# Altium footprint library PCB - CONNECTOR - TE ZIF.PcbLib: 2 footprints
Each footprint in its own frame and in the unit in brackets; x right, y up, seen from the top. Pads: shape width x height; smd on the part's side, far side on the other; paste and mask are expansions set on the pad; w line width, h text height; cw(c..) or ccw(c..) is an arc to the next point about the centre after c.
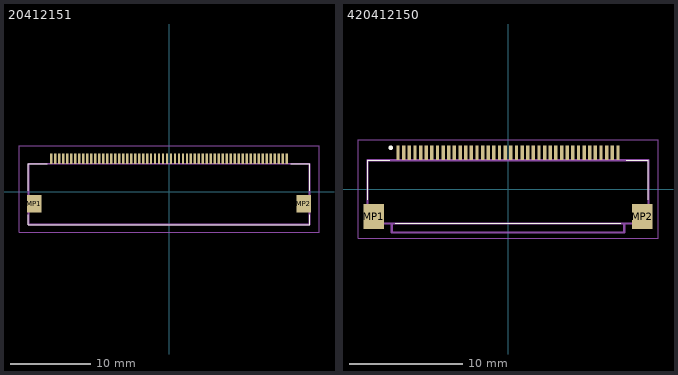
[diagram p0: the footprints below, top view; thin cyan lines are the x and y axes]

## 20412151 [mm]
pads (62):
  rect 0.3x1.3 smd: 1(-14.75,4.125) 2(-14.25,4.125) 3(-13.75,4.125) 4(-13.25,4.125) 5(-12.75,4.125) 6(-12.25,4.125) 7(-11.75,4.125) 8(-11.25,4.125) 9(-10.75,4.125) 10(-10.25,4.125) 11(-9.75,4.125) 12(-9.25,4.125) 13(-8.75,4.125) 14(-8.25,4.125) 15(-7.75,4.125) 16(-7.25,4.125) 17(-6.75,4.125) 18(-6.25,4.125) 19(-5.75,4.125) 20(-5.25,4.125) 21(-4.75,4.125) 22(-4.25,4.125) 23(-3.75,4.125) 24(-3.25,4.125) 25(-2.75,4.125) 26(-2.25,4.125) 27(-1.75,4.125) 28(-1.25,4.125) 29(-0.75,4.125) 30(-0.25,4.125) 31(0.25,4.125) 32(0.75,4.125) 33(1.25,4.125) 34(1.75,4.125) 35(2.25,4.125) 36(2.75,4.125) 37(3.25,4.125) 38(3.75,4.125) 39(4.25,4.125) 40(4.75,4.125) 41(5.25,4.125) 42(5.75,4.125) 43(6.25,4.125) 44(6.75,4.125) 45(7.25,4.125) 46(7.75,4.125) 47(8.25,4.125) 48(8.75,4.125) 49(9.25,4.125) 50(9.75,4.125) 51(10.25,4.125) 52(10.75,4.125) 53(11.25,4.125) 54(11.75,4.125) 55(12.25,4.125) 56(12.75,4.125) 57(13.25,4.125) 58(13.75,4.125) 59(14.25,4.125) 60(14.75,4.125)
  rect 1.8x2.2 smd: MP1(-16.9,-1.525) MP2(16.9,-1.525)
Top Overlay:
  lines w0.1: -17.615,-2.875 -17.615,-4.125 17.615,-4.125 17.615,-2.875 ; -17.615,0.125 -17.615,3.475 -15.25,3.475 ; 15.25,3.475 17.615,3.475 17.615,0.125
Mechanical 13:
  lines w0.2: -17.615,-4.125 -17.615,3.475 17.615,3.475 17.615,-4.125 -17.615,-4.125
Mechanical 15:
  lines w0.1: -18.8,-5.125 -18.8,5.775 18.8,5.775 18.8,-5.125 -18.8,-5.125
3D body "2041215-1.stp": height 2.85, standoff 0, extent -17.62,-4.125 17.62,4.745

## 420412150 [mm]
pads (42):
  rect 0.3x1.3 smd: 1(-9.75,3.2) 2(-9.25,3.2) 3(-8.75,3.2) 4(-8.25,3.2) 5(-7.75,3.2) 6(-7.25,3.2) 7(-6.75,3.2) 8(-6.25,3.2) 9(-5.75,3.2) 10(-5.25,3.2) 11(-4.75,3.2) 12(-4.25,3.2) 13(-3.75,3.2) 14(-3.25,3.2) 15(-2.75,3.2) 16(-2.25,3.2) 17(-1.75,3.2) 18(-1.25,3.2) 19(-0.75,3.2) 20(-0.25,3.2) 21(0.25,3.2) 22(0.75,3.2) 23(1.25,3.2) 24(1.75,3.2) 25(2.25,3.2) 26(2.75,3.2) 27(3.25,3.2) 28(3.75,3.2) 29(4.25,3.2) 30(4.75,3.2) 31(5.25,3.2) 32(5.75,3.2) 33(6.25,3.2) 34(6.75,3.2) 35(7.25,3.2) 36(7.75,3.2) 37(8.25,3.2) 38(8.75,3.2) 39(9.25,3.2) 40(9.75,3.2)
  rect 1.8x2.2 smd: MP1(-11.9,-2.45) MP2(11.9,-2.45)
Top Overlay:
  lines w0.1: -12.45,-0.95 -12.45,2.55 -10.5,2.55 ; -10,-3.05 10,-3.05 ; 10.5,2.55 12.45,2.55 12.45,-0.95
  lines w0.2: -10.4,3.55 cw(c-10.4,3.65) -10.4,3.75 cw(c-10.4,3.65) -10.4,3.55
Mechanical 13:
  lines w0.2: -12.45,-3.05 12.45,-3.05 12.45,2.55 -12.45,2.55 -12.45,-3.05 ; -10.3,-3.85 10.3,-3.85 10.3,-3.05 -10.3,-3.05 -10.3,-3.85
Mechanical 15:
  lines w0.1: -13.3,-4.35 13.3,-4.35 13.3,4.35 -13.3,4.35 -13.3,-4.35